# Altium footprint library PcbLib1.PcbLib: 5 footprints
Each footprint in its own frame and in the unit in brackets; x right, y up, seen from the top. Pads: shape width x height; smd on the part's side, far side on the other; paste and mask are expansions set on the pad; w line width, h text height; cw(c..) or ccw(c..) is an arc to the next point about the centre after c.
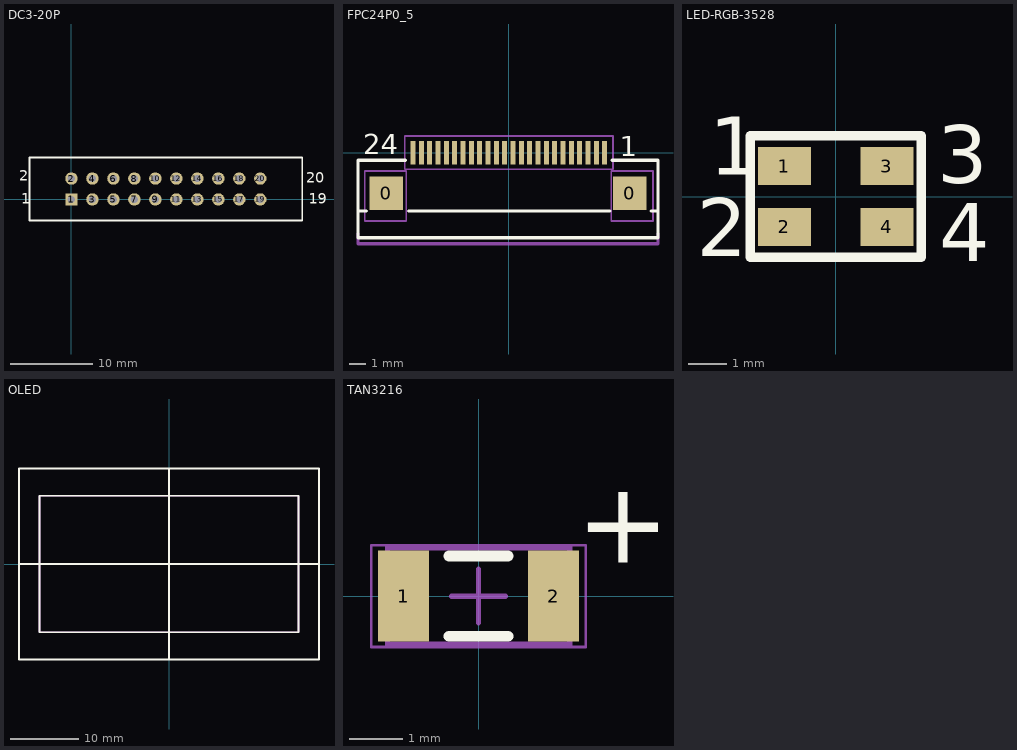
[diagram p0: the footprints below, top view; thin cyan lines are the x and y axes]

## DC3-20P [mm] "Connector; Header; 10x2 Position"
height 20
pads (20):
  rect 1.5x1.5 hole 0.9: 1(0,0)
  round 1.5 hole 0.9: 2(0,2.54) 3(2.54,0) 4(2.54,2.54) 5(5.08,0) 6(5.08,2.54) 7(7.62,0) 8(7.62,2.54) 9(10.16,0) 10(10.16,2.54) 11(12.7,0) 12(12.7,2.54) 13(15.24,0) 14(15.24,2.54) 15(17.78,0) 16(17.78,2.54) 17(20.32,0) 18(20.32,2.54) 19(22.86,0) 20(22.86,2.54)
Top Overlay:
  lines w0.2: -5.08,-2.54 27.94,-2.54 27.94,5.08 -5.08,5.08 -5.08,-2.54
  text "2" at -6.35,2.286 h1.27
  text "1" at -6.096,-0.508 h1.27
  text "19" at 28.702,-0.508 h1.27
  text "20" at 28.448,2.032 h1.27
3D body: height 16, standoff 0, extent -5.08,-2.54 27.94,5.08

## FPC24P0_5 [mm] "SFV24R-2STE1HLF"
height 1.2
pads (26):
  rect 2x2 smd: 0(-7.356,-2.438) 0(7.249,-2.438)
  rect 0.3x1.4 smd: 1(5.75,0) 2(5.25,0) 3(4.75,0) 4(4.25,0) 5(3.75,0) 6(3.25,0) 7(2.75,0) 8(2.25,0) 9(1.75,0) 10(1.25,0) 11(0.75,0) 12(0.25,0) 13(-0.25,0) 14(-0.75,0) 15(-1.25,0) 16(-1.75,0) 17(-2.25,0) 19(-3.25,0) 19(-2.75,0) 20(-3.75,0) 21(-4.25,0) 22(-4.75,0) 23(-5.25,0) 24(-5.75,0)
Top Overlay:
  lines w0.2: -9.05,-3.5 -8.55,-3.5 ; -6.2,-0.45 -9.05,-0.45 -9.05,-5.1 8.95,-5.1 8.95,-0.45 6.2,-0.45 ; -6.004,-3.5 6.05,-3.5 ; 8.55,-3.5 8.95,-3.5
  text "1" at 6.65,-0.2 h1.2
  text "24" at -8.75,-0.1 h1.2
Mechanical 7:
  lines w0.2: -9.05,-4.85 -9.05,-5.45 8.95,-5.45 8.95,-4.85
Mechanical 16:
  lines w0.1: -8.65,-4.1 -6.15,-4.1 -6.15,-1.1 -8.65,-1.1 -8.65,-4.1 ; -6.25,-1 6.25,-1 6.25,1 -6.25,1 -6.25,-1 ; 6.15,-4.1 6.15,-1.1 8.65,-1.1 8.65,-4.1 6.15,-4.1

## LED-RGB-3528 [mm]
height 2
pads (4):
  rect 1.4x1 smd: 1(-1.35,0.8) 2(-1.35,-0.8) 3(1.35,0.8) 4(1.35,-0.8)
Top Overlay:
  lines w0.254: -2.25,-1.6 -2.25,1.6 2.25,1.6 2.25,-1.6 -2.25,-1.6
  text "1" at -3.325,0.575 h1.52
  text "2" at -3.65,-1.575 h1.52
  text "3" at 2.675,0.35 h1.52
  text "4" at 2.725,-1.7 h1.52
3D body: height 2, standoff 0, extent -2.15,-1.5 2.15,1.5

## OLED [mm]
height 2
Top Overlay:
  lines w0.254: -22,0 22,0 ; 0,-14 0,14 ; -22,-14 22,-14 22,14 -22,14 -22,-14 ; -19,-10 19,-10 19,10 -19,10 -19,-10
Mechanical 1:
  lines w0.254: -19,-10 19,-10 19,10 -19,10 -19,-10
3D body: height 2, standoff 0, extent -22,-14 22,14

## TAN3216 [mm] "Chip Capacitor, Body 3.2x1.6mm, Height 1mm, IPC High Density"
height 1
pads (2):
  rect 0.95x1.7 smd: 1(-1.4,0) 2(1.4,0)
Top Overlay:
  lines w0.2: -0.55,-0.75 0.55,-0.75 ; -0.55,0.75 0.55,0.75
  text "+" at 1.825,0.625 h1.52
Mechanical 13:
  lines w0.1: -1.7,-0.9 -1.7,0.9 1.7,0.9 1.7,-0.9 -1.7,-0.9
Mechanical 15:
  lines w0.05: -2,-0.95 -2,0.95 2,0.95 2,-0.95 -2,-0.95
  lines w0.1: -0.5,0 0.5,0 ; 0,-0.5 0,0.5
3D body: height 1, standoff 0, extent -1.2,-0.9 1.2,0.9
3D body: height 1, standoff 0, extent -1.7,-0.9 -1.2,0.9
3D body: height 1, standoff 0, extent 1.2,-0.9 1.7,0.9